# EAGLE library part BM05B-SRSS-TB(LF)(SN) (library BM05B-SRSS-TB_LF__SN_)
5 Position 1.0mm Top-Entry Surface Mount Shrouded Header Check prices <https://pricing.snapeda.com/parts/BM05B-SRSS-TB%28LF%29%28SN%29/JST%20Sales/view-part?ref=eda>
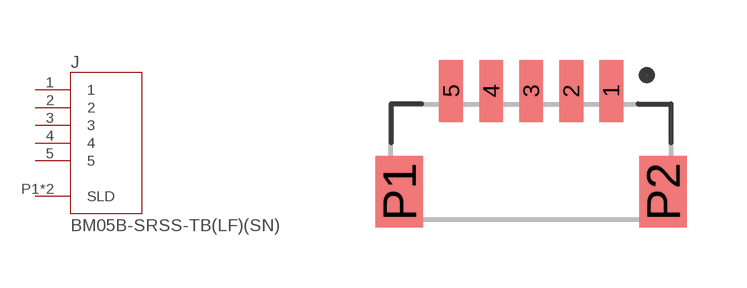
[diagram p0: symbol with the pads of JST_860-10-020-30-002000; footprint JST_860-10-020-30-002000]

Designator prefix J

## BM05B-SRSS-TB(LF)(SN) (Availability: In Stock; Description: Connector Header Surface Mount 5 position 0.039 (1.00mm); MF: JST Sales; MP: BM05B-SRSS-TB(LF)(SN); Package: None; Price: None; Purchase-URL: https://pricing.snapeda.com/search/part/BM05B-SRSS-TB(LF)(SN)/?ref=eda)  [JST_860-10-020-30-002000]
1  1  pas
2  2  pas
3  3  pas
4  4  pas
5  5  pas
P1  SLD  pas
P2  SLD  pas

## Footprint JST_860-10-020-30-002000 (pad centres in mm)
smd 0.6 x 1.55: 1 0,0; 2 -1,0; 3 -2,0; 4 -3,0; 5 -4,0
smd 1.2 x 1.8: P1 -5.3,-2.525; P2 1.3,-2.525